# Altium footprint library Custom library.PcbLib: 80 footprints (part 1 of 5)
Each footprint in its own frame and in the unit in brackets; x right, y up, seen from the top. Pads: shape width x height; smd on the part's side, far side on the other; paste and mask are expansions set on the pad; w line width, h text height; cw(c..) or ccw(c..) is an arc to the next point about the centre after c.
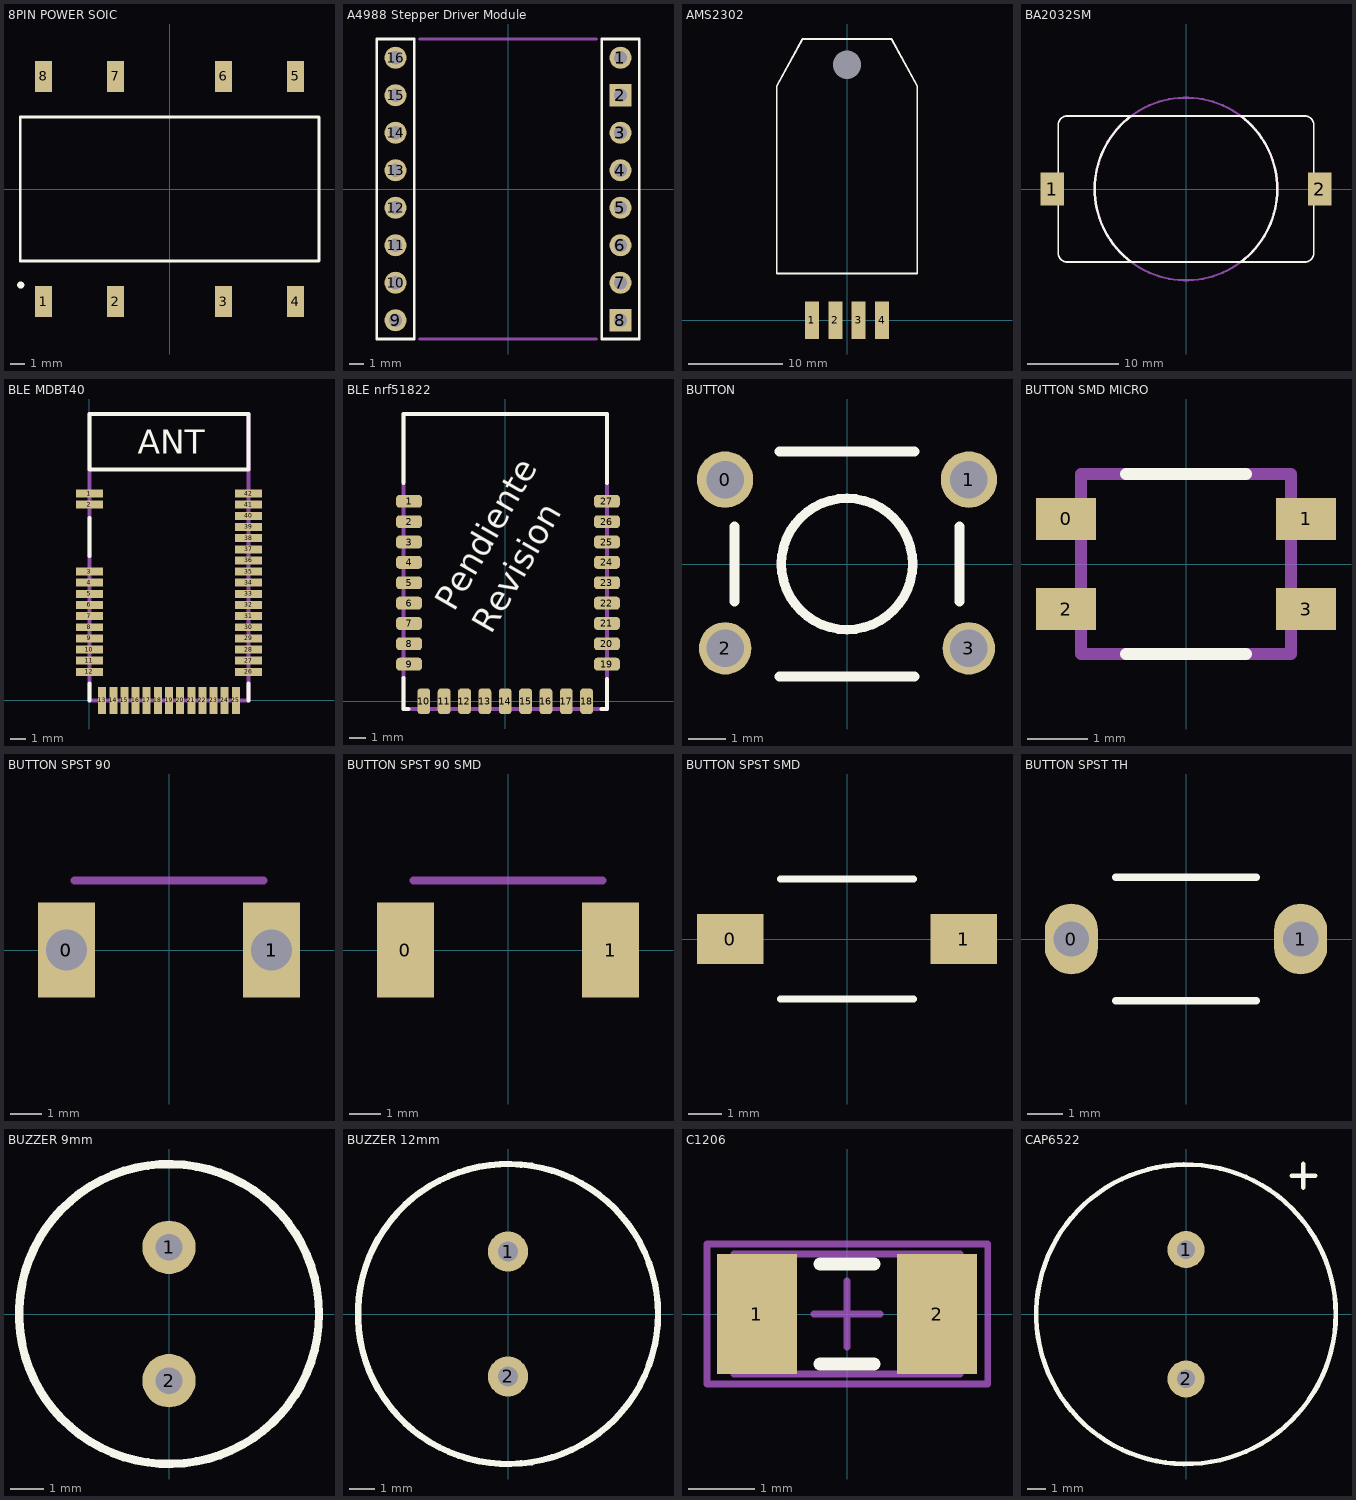
[diagram p0: the footprints below, top view; thin cyan lines are the x and y axes]

## 8PIN POWER SOIC [mm] "8-pin Power Soic"
height 3.3
pads (8):
  rect 1.2x2.2 smd: 1(-8.89,-7.95) 2(-3.81,-7.95) 3(3.81,-7.95) 4(8.89,-7.95) 5(8.89,7.95) 6(3.81,7.95) 7(-3.81,7.95) 8(-8.89,7.95)
Top Overlay:
  circle w0.25: c-10.505,-6.78 r0.125
  lines w0.2: -10.541,-5.08 10.541,-5.08 10.541,5.08 -10.541,5.08 -10.541,-5.08
3D body: height 3.3, standoff 0.13, extent -10.541,-5.08 10.541,5.08

## A4988 Stepper Driver Module [mm] "Stepper Driver"
pads (16):
  round 1.5 hole 0.9: 1(7.62,8.89) 3(7.62,3.81) 4(7.62,1.27) 5(7.62,-1.27) 6(7.62,-3.81) 7(7.62,-6.35) 9(-7.62,-8.89) 10(-7.62,-6.35) 11(-7.62,-3.81) 12(-7.62,-1.27) 13(-7.62,1.27) 14(-7.62,3.81) 15(-7.62,6.35) 16(-7.62,8.89)
  rect 1.5x1.5 hole 0.9: 2(7.62,6.35) 8(7.62,-8.89)
Top Overlay:
  lines w0.2: -8.89,-10.16 -6.35,-10.16 -6.35,10.16 -8.89,10.16 -8.89,-10.16 ; 6.35,-10.16 8.89,-10.16 8.89,10.16 6.35,10.16 6.35,-10.16
Mechanical 1:
  lines w0.2: -6,-10.16 6,-10.16 ; -6,10.16 6,10.16
3D body: height 11, standoff 0.5, extent -8.9,-10.14 -6.37,10.16
3D body: height 11, standoff 0.5, extent 6.34,-10.14 8.87,10.16
3D body: height 13, standoff 11, extent -8.9,-10.14 8.87,10.16

## AMS2302 [mm] "DHT22 Module"
height 7.7
pads (5):
  round 0 hole 3: 0(0,27.25)
  rect 1.5x4 smd: 1(-3.75,0) 2(-1.25,0) 3(1.25,0) 4(3.75,0)
Top Overlay:
  lines w0.2: -7.5,5 -7.5,25 -4.75,30 4.75,30 7.5,25 7.5,5 -7.5,5
3D body: height 8.15, standoff 0, extent -7.71,-2.73 7.76,30.22

## BA2032SM [mm] "Coin Cell Holder CR2032"
pads (2):
  rect 2.6x3.56 smd: 1(-14.65,0) 2(14.65,0)
Top Overlay:
  lines w0.2: -14,-7 ccw(c-13,-7) -13,-8 13,-8 ccw(c13,-7) 14,-7 14,7 ccw(c13,7) 13,8 -13,8 ccw(c-13,7) -14,7 -14,-7
  lines w0.254: -6.078,-7.941 cw(c0,0) -6.035,7.973 ; 6.035,-7.973 ccw(c0,0) 6.078,7.941
Mechanical 15:
  circle w0.254: c0,0 r10

## BLE MDBT40 [mm] "BLE module nrf51822"
pads (42):
  rect 1.7x0.5 smd: 1(0,13) 2(0,12.3) 3(0,8.1) 4(0,7.4) 5(0,6.7) 6(0,6) 7(0,5.3) 8(0,4.6) 9(0,3.9) 10(0,3.2) 11(0,2.5) 12(0,1.8) 26(10,1.8) 27(10,2.5) 28(10,3.2) 29(10,3.9) 30(10,4.6) 31(10,5.3) 32(10,6) 33(10,6.7) 34(10,7.4) 35(10,8.1) 36(10,8.8) 37(10,9.5) 38(10,10.2) 39(10,10.9) 40(10,11.6) 41(10,12.3) 42(10,13)
  rect 0.5x1.7 smd: 13(0.8,0) 14(1.5,0) 15(2.2,0) 16(2.9,0) 17(3.6,0) 18(4.3,0) 19(5,0) 20(5.7,0) 21(6.4,0) 22(7.1,0) 23(7.8,0) 24(8.5,0) 25(9.2,0)
Top Overlay:
  lines w0.254: 0,0 0,1.06 ; 0,9.08 0,11.47 ; 10,0 10,1.06 ; 0,14.5 10,14.5 10,18 0,18 0,14.5
  text "ANT" at 3.03,15.5 h1.52
Mechanical 1:
  lines w0.254: 0,0 0,18 10,18 10,0 0,0

## BLE nrf51822 [mm] "modulo BLE"
pads (27):
  rrect50% 1.6x0.8 smd: 1(-6,12.47) 2(-6,11.2) 3(-6,9.93) 4(-6,8.66) 5(-6,7.39) 6(-6,6.12) 7(-6,4.85) 8(-6,3.58) 9(-6,2.31) 19(6.35,2.31) 20(6.35,3.58) 21(6.35,4.85) 22(6.35,6.12) 23(6.35,7.39) 24(6.35,8.66) 25(6.35,9.93) 26(6.35,11.2) 27(6.35,12.47)
  rrect50% 0.8x1.6 smd: 10(-5.08,0) 11(-3.81,0) 12(-2.54,0) 13(-1.27,0) 14(0,0) 15(1.27,0) 16(2.54,0) 17(3.81,0) 18(5.08,0)
Top Overlay:
  lines w0.254: -6.35,1.45 -6.35,-0.5 -6.05,-0.5 ; -6.35,13.63 -6.35,17.92 6.35,17.92 6.35,13.62 ; 6.01,-0.5 6.35,-0.5 6.35,1.38
  text "Pendiente" at -3.19,5.51 h1.52
  text "Revision" at -0.86,4.1 h1.52
Mechanical 1:
  lines w0.254: -6.35,-0.5 6.35,-0.5 6.35,17.92 -6.35,17.92 -6.35,-0.5

## BUTTON [mm]
pads (4):
  round 1.5 hole 1: 0(-3.25,2.25) 1(3.25,2.25)
  round 1.4 hole 1: 2(-3.25,-2.25) 3(3.25,-2.25)
Top Overlay:
  circle w0.254: c0,0 r1.75
  lines w0.254: -3,-1 -3,1 ; -1.8,-3 1.8,-3 ; -1.8,3 1.8,3 ; 3,-1 3,1
3D body: height 1, standoff -1, extent 3.01,-2.51 3.45,-2.02
3D body: height 1, standoff -1, extent 3.01,1.99 3.45,2.48
3D body: height 1, standoff -1, extent -3.45,-2.48 -3.01,-1.99
3D body: height 1, standoff -1, extent -3.45,2.02 -3.01,2.51
3D body: height 5.2, standoff 3.7, extent -1.736,-1.746 1.75,1.747
3D body: height 3.5, standoff 0.1, extent -3.01,-3.01 3.01,3.01
3D body: height 3.7, standoff 3.5, extent -3.01,-3.01 3.01,3.01
3D body: height 4, standoff 3.5, extent 1.405,1.401 2.6,2.599
3D body: height 4, standoff 3.5, extent -2.595,-2.599 -1.4,-1.401
3D body: height 4, standoff 3.5, extent 1.405,-2.599 2.6,-1.401
3D body: height 4, standoff 3.5, extent -2.595,1.401 -1.4,2.599

## BUTTON SMD MICRO [mm]
pads (4):
  rect 1x0.7 smd: 0(-2,0.75) 1(2,0.75) 2(-2,-0.75) 3(2,-0.75)
Top Overlay:
  lines w0.2: -1,-1.5 1,-1.5 ; -1,1.5 1,1.5
Mechanical 15:
  lines w0.2: -1.75,-1.5 -1.75,1.5 1.75,1.5 1.75,-1.5 -1.75,-1.5
3D body: height 0.15, standoff 0, extent 1.75,-1 2.25,-0.5
3D body: height 0.15, standoff 0, extent 1.75,0.5 2.25,1
3D body: height 0.15, standoff 0, extent -2.25,-1 -1.75,-0.5
3D body: height 0.15, standoff 0, extent -2.25,0.5 -1.75,1
3D body: height 3.3, standoff 1.3, extent -0.843,-0.848 0.85,0.848
3D body: height 1.3, standoff 0, extent -1.75,-1.5 1.75,1.5

## BUTTON SPST 90 [mm] "Boton 4.3mm 90 degrees"
pads (4):
  rect 1.8x3 smd: 0(-3.25,0) 1(3.25,0)
  round 1.8 hole 1.3: 0(-3.25,0) 1(3.25,0)
Mechanical 1:
  lines w0.254: -3,2.2 3,2.2
3D body: height 2.25, standoff -1.24, extent -3.96,-1.27 3.94,6.53

## BUTTON SPST 90 SMD [mm] "Boton 4.3mm 90 degrees no holes"
pads (2):
  rect 1.8x3 smd: 0(-3.25,0) 1(3.25,0)
Mechanical 1:
  lines w0.254: -3,2.2 3,2.2
3D body: height 2.25, standoff -1.24, extent -3.96,-1.27 3.94,6.53

## BUTTON SPST SMD [mm] "Boton 4.3mm straight"
pads (2):
  rect 2x1.5 smd: 0(-3.5,0) 1(3.5,0)
Top Overlay:
  lines w0.2: -2,-1.8 2,-1.8 ; -2,1.8 2,1.8
3D body: height 1.5, standoff 0.05, extent -3,-1.9 3,1.9
3D body: height 2.4, standoff 1.5, extent -1.35,-0.5 1.35,0.5

## BUTTON SPST TH [mm] "Boton 4.3mm straight"
pads (2):
  oval 1.5x2 hole 1: 0(-3.25,0) 1(3.25,0)
Top Overlay:
  lines w0.2: -2,-1.75 2,-1.75 ; -2,1.75 2,1.75
3D body: height 4.3, standoff -3.5, extent -3.96,-1.76 3.94,1.73

## BUZZER 9mm [mm] "Buzzer 5v"
height 8
pads (2):
  round 1.6 hole 0.8: 1(0,2) 2(0,-2)
Top Overlay:
  circle w0.254: c0,0 r4.5
3D body: height 5, standoff 0, extent -4.464,-4.491 4.5,4.491

## BUZZER 12mm [mm] "Buzzer 5v"
height 8
pads (2):
  round 1.6 hole 0.8: 1(0,2.5) 2(0,-2.5)
Top Overlay:
  circle w0.254: c0,0 r6
3D body: height 8.4, standoff 0, extent -5.953,-5.988 6,5.988

## C1206 [mm]
pads (2):
  rect 1.2x1.8 smd: 1(-1.35,0) 2(1.35,0)
Top Overlay:
  lines w0.2: -0.4,-0.75 0.4,-0.75 ; -0.4,0.75 0.4,0.75
Mechanical 13:
  lines w0.1: -1.7,-0.9 1.7,-0.9 1.7,0.9 -1.7,0.9 -1.7,-0.9
Mechanical 15:
  lines w0.1: -0.5,0 0.5,0 ; 0,-0.5 0,0.5 ; -2.1,-1.05 -2.1,1.05 2.11,1.05 2.11,-1.05 -2.1,-1.05
3D body: height 1.3, standoff 0, extent -1.7,-0.9 1.7,0.9

## CAP6522 [mm] "Standart electrolitic capasitor"
height 30.8
pads (2):
  round 2 hole 1: 1(0,3.5) 2(0,-3.5)
Top Overlay:
  circle w0.254: c0,0 r8.1
  lines w0.254: 5.715,7.493 6.985,7.493 ; 6.35,6.858 6.35,8.128
3D body: height 30.8, standoff 0, extent -8.036,-8.084 8.1,8.084